# EAGLE library part AT97SC3205T (library ICBE)
Hardware Asymmetric Crypto Engine
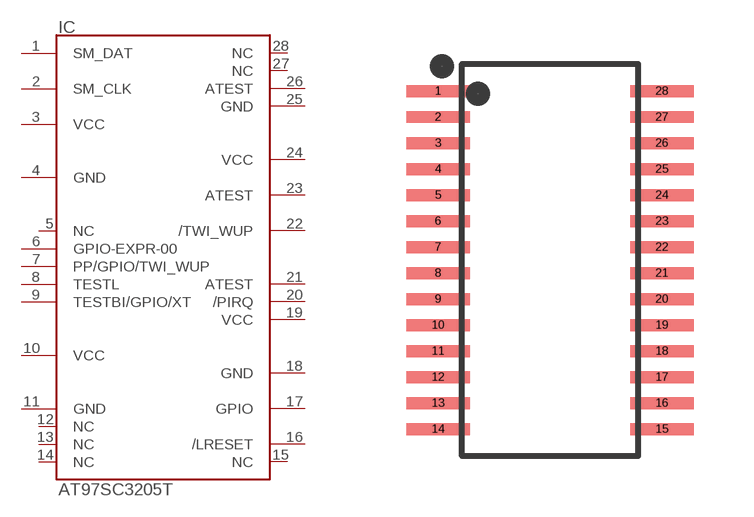
[diagram p0: symbol with the pads of TSSOP28; footprint TSSOP28]

Designator prefix IC

## AT97SC3205T-U3A1C20B (MANUFACTURER: Microchip; MFR_PN: AT97SC3205T-U3A1C20B)  [TSSOP28]
1  SM_DAT  in
2  SM_CLK  in
3  VCC  in
4  GND  in
5  NC  pas
6  GPIO-EXPR-00
7  PP/GPIO/TWI_WUP
8  TESTL  in
9  TESTBI/GPIO/XT  in
10  VCC  in
11  GND  in
12  NC  pas
13  NC  pas
14  NC  pas
15  NC  pas
16  /LRESET  in
17  GPIO  in
18  GND  in
19  VCC  in
20  /PIRQ  in
21  ATEST  in
22  /TWI_WUP  in
23  ATEST  in
24  VCC  in
25  GND  in
26  ATEST  in
27  NC  pas
28  NC  pas

## Footprint TSSOP28 (pad centres in mm)
TSSOP 28-pin
smd 1.59 x 0.3: 1 -2.8,4.225; 2 -2.8,3.575; 3 -2.8,2.925; 4 -2.8,2.275; 5 -2.8,1.625; 6 -2.8,0.975; 7 -2.8,0.325; 8 -2.8,-0.325; 9 -2.8,-0.975; 10 -2.8,-1.625; 11 -2.8,-2.275; 12 -2.8,-2.925; 13 -2.8,-3.575; 14 -2.8,-4.225; 15 2.8,-4.225; 16 2.8,-3.575; 17 2.8,-2.925; 18 2.8,-2.275; 19 2.8,-1.625; 20 2.8,-0.975; 21 2.8,-0.325; 22 2.8,0.325; 23 2.8,0.975; 24 2.8,1.625; 25 2.8,2.275; 26 2.8,2.925; 27 2.8,3.575; 28 2.8,4.225